# EAGLE library part AD9833 (library AD9833)
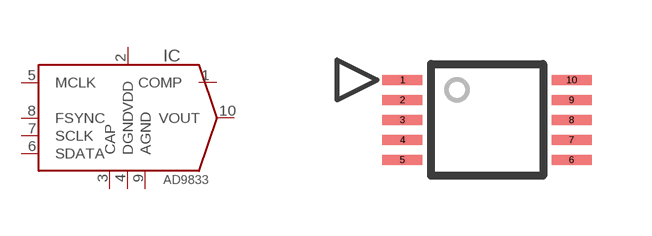
[diagram p0: symbol with the pads of MSOP10; footprint MSOP10]

Designator prefix IC

## AD9833BRMZ (MARK: D68; MF: Analog; MPN: AD9833BRMZ)  [MSOP10]
1  COMP
2  VDD  pwr
3  CAP
4  DGND  pwr
5  MCLK  in
6  SDATA  in
7  SCLK  in
8  FSYNC  in
9  AGND  pwr
10  VOUT  out

## Footprint MSOP10 (pad centres in mm)
10-Lead Mini Small Outline Package [MSOP]
smd 1 x 0.25: 1 -2.113,1; 2 -2.113,0.5; 3 -2.113,0; 4 -2.113,-0.5; 5 -2.113,-1; 6 2.113,-1; 7 2.113,-0.5; 8 2.113,0; 9 2.113,0.5; 10 2.113,1